# EAGLE library part A6S-6104-H (library switch-cubic)
Dip Switch Raised Actuator with SMT Terminal 6 pole A6S-6104-H
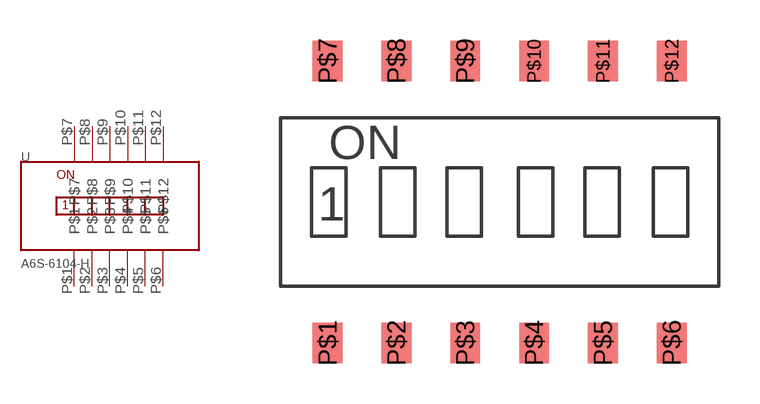
[diagram p0: symbol with the pads of A6S-6104-H; footprint A6S-6104-H]

Designator prefix -

## A6S-6104-H  [A6S-6104-H]
P$1  P$1
P$2  P$2
P$3  P$3
P$4  P$4
P$5  P$5
P$6  P$6
P$7  P$7
P$8  P$8
P$9  P$9
P$10  P$10
P$11  P$11
P$12  P$12

## Footprint A6S-6104-H (pad centres in mm)
Dip Switch Raised Actuator with SMT Terminal 6 pole A6S-6104-H
smd 1.1 x 1.5: P$1 -6.35,-5.2; P$2 -3.81,-5.2; P$3 -1.27,-5.2; P$4 1.27,-5.2; P$5 3.81,-5.2; P$6 6.35,-5.2; P$7 -6.35,5.2; P$8 -3.81,5.2; P$9 -1.27,5.2; P$10 1.27,5.2; P$11 3.81,5.2; P$12 6.35,5.2